# Altium schematic symbol library Reset.SchLib: 9 symbols
Pins are listed as number, name and electrical type; pins without a type are passive.

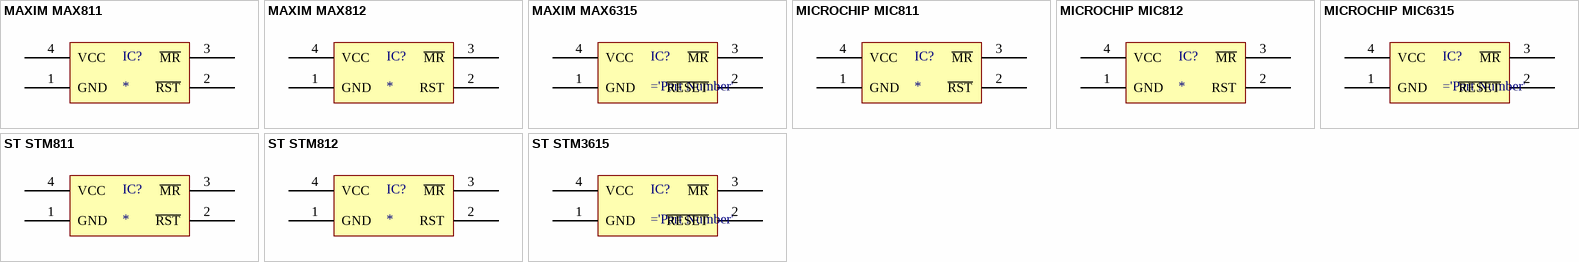
[diagram p0: symbols MAXIM MAX811 to ST STM3615]

## MAXIM MAX811
designator IC?
pins: 1 GND, 2 ~{RST}, 3 ~{MR}, 4 VCC

## MAXIM MAX812
designator IC?
pins: 1 GND, 2 RST, 3 ~{MR}, 4 VCC

## MAXIM MAX6315
designator IC?
pins: 1 GND, 2 ~{RESET}, 3 ~{MR}, 4 VCC

## MICROCHIP MIC811
designator IC?
pins: 1 GND, 2 ~{RST}, 3 ~{MR}, 4 VCC

## MICROCHIP MIC812
designator IC?
pins: 1 GND, 2 RST, 3 ~{MR}, 4 VCC

## MICROCHIP MIC6315
designator IC?
pins: 1 GND, 2 ~{RESET}, 3 ~{MR}, 4 VCC

## ST STM811
designator IC?
pins: 1 GND, 2 ~{RST}, 3 ~{MR}, 4 VCC

## ST STM812
designator IC?
pins: 1 GND, 2 RST, 3 ~{MR}, 4 VCC

## ST STM3615
designator IC?
pins: 1 GND, 2 ~{RESET}, 3 ~{MR}, 4 VCC